# EAGLE library part UWS (library Powerlib)
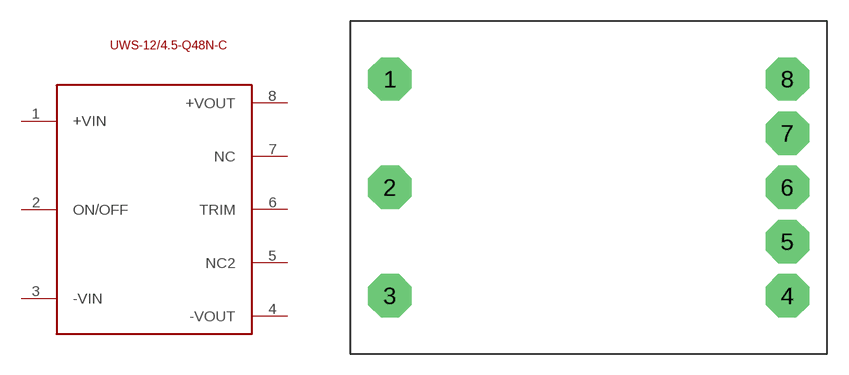
[diagram p0: symbol with the pads of UWS; footprint UWS]

Designator prefix -

## UWS  [UWS]
1  +VIN
2  ON/OFF
3  -VIN
4  -VOUT
5  NC2
6  TRIM
7  NC
8  +VOUT

## Footprint UWS (pad centres in mm)
drill 2.032 pad 2.54 octagon: 1 2.54,19.05; 2 2.54,11.43; 3 2.54,3.81; 4 30.48,3.81; 5 30.48,7.62; 6 30.48,11.43; 7 30.48,15.24; 8 30.48,19.05